# Altium footprint library Standard_SMD.PcbLib: 65 footprints (part 4 of 5)
Each footprint in its own frame and in the unit in brackets; x right, y up, seen from the top. Pads: shape width x height; smd on the part's side, far side on the other; paste and mask are expansions set on the pad; w line width, h text height; cw(c..) or ccw(c..) is an arc to the next point about the centre after c.
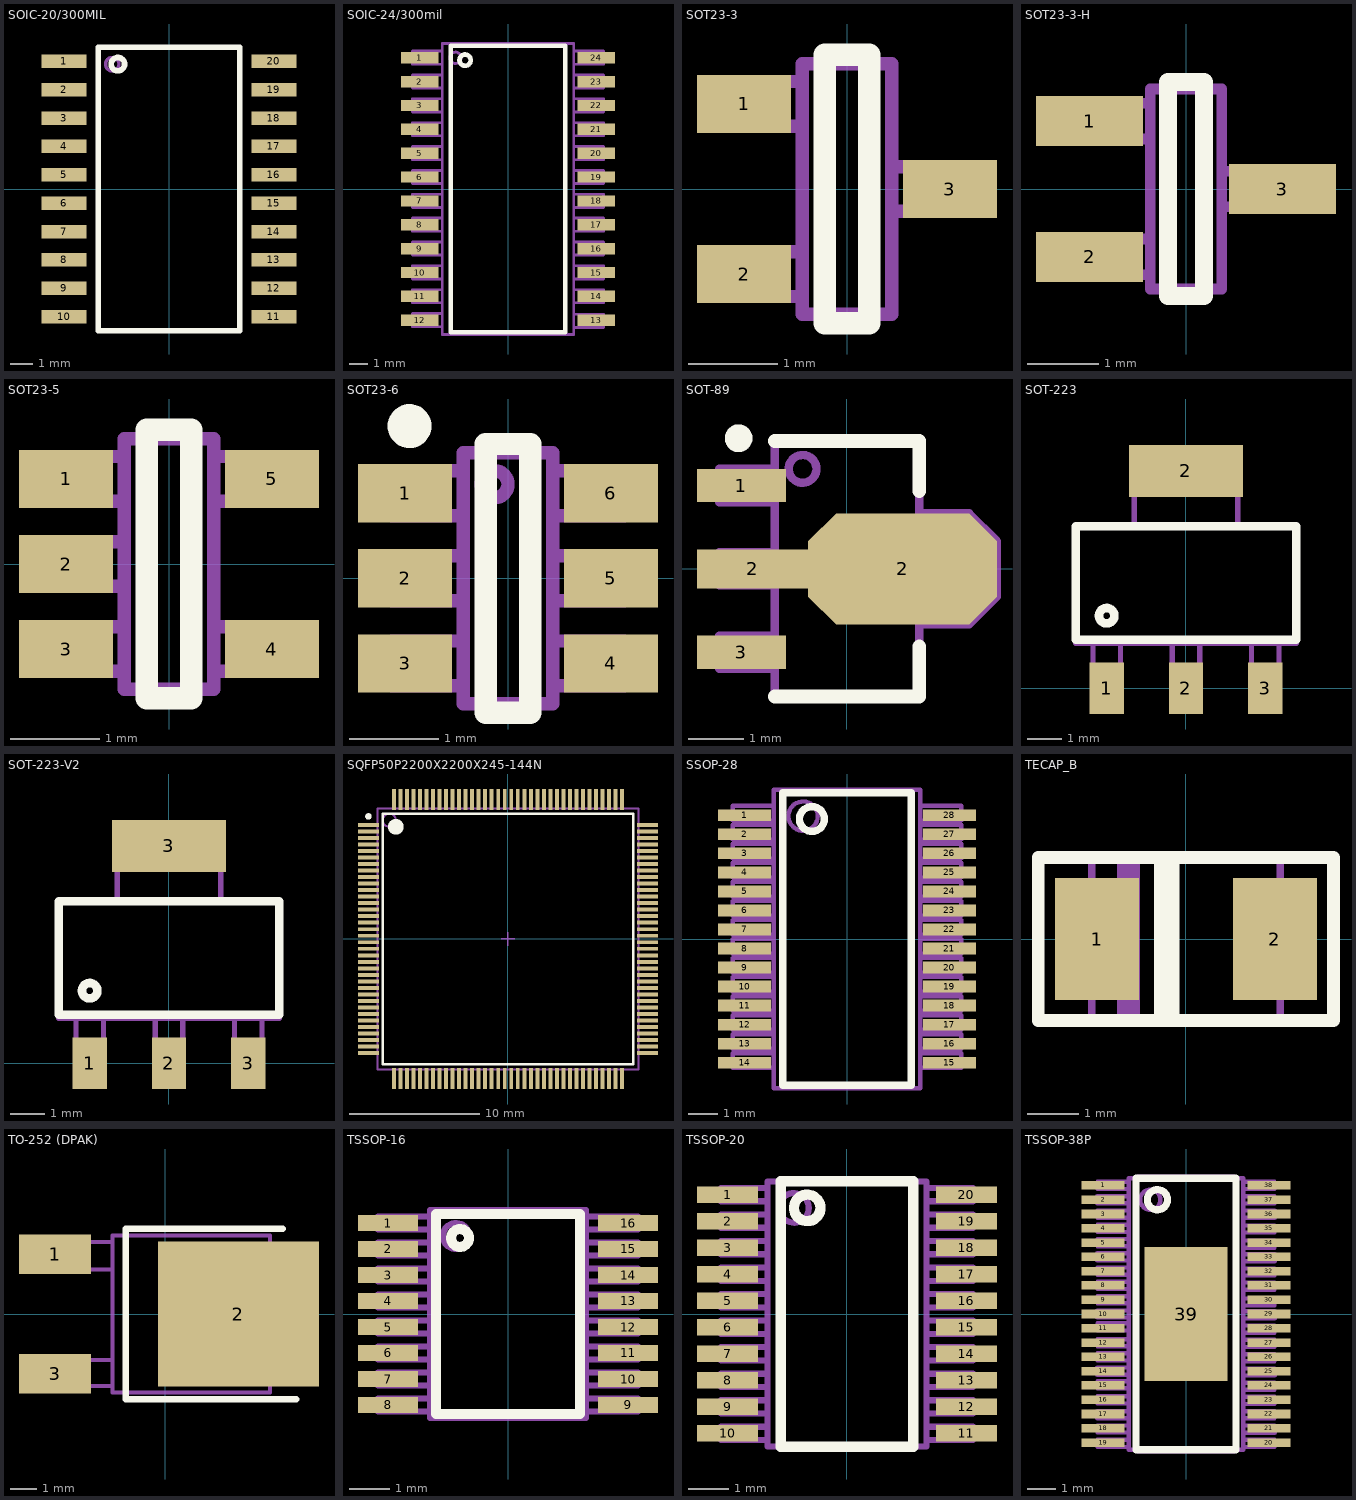
[diagram p3: the footprints below, top view; thin cyan lines are the x and y axes]

## SOIC-20/300MIL [mm]
pads (20):
  rect 2x0.6 smd: 1(-4.7,5.715) 2(-4.7,4.445) 3(-4.7,3.175) 4(-4.7,1.905) 5(-4.7,0.635) 6(-4.7,-0.635) 7(-4.7,-1.905) 8(-4.7,-3.175) 9(-4.7,-4.445) 10(-4.7,-5.715) 11(4.7,-5.715) 12(4.7,-4.445) 13(4.7,-3.175) 14(4.7,-1.905) 15(4.7,-0.635) 16(4.7,0.635) 17(4.7,1.905) 18(4.7,3.175) 19(4.7,4.445) 20(4.7,5.715)
Top Overlay:
  circle w0.25: c-2.286,5.588 r0.3
  lines w0.25: -3.175,-6.35 3.175,-6.35 3.175,6.35 -3.175,6.35 -3.175,-6.35
Top Assembly:
  circle w0.15: c-2.54,5.588 r0.3
  lines w0.15: -3.175,-6.35 3.175,-6.35 3.175,6.35 -3.175,6.35 -3.175,-6.35
3D body "SOIC20 wide.stp": height 2, standoff 0, extent -5.082,-6.5 5.082,6.5

## SOIC-24/300mil [mm]
pads (24):
  rect 2x0.6 smd: 1(-4.7,6.985) 2(-4.7,5.715) 3(-4.7,4.445) 4(-4.7,3.175) 5(-4.7,1.905) 6(-4.7,0.635) 7(-4.7,-0.635) 8(-4.7,-1.905) 9(-4.7,-3.175) 10(-4.7,-4.445) 11(-4.7,-5.715) 12(-4.7,-6.985) 13(4.7,-6.985) 14(4.7,-5.715) 15(4.7,-4.445) 16(4.7,-3.175) 17(4.7,-1.905) 18(4.7,-0.635) 19(4.7,0.635) 20(4.7,1.905) 21(4.7,3.175) 22(4.7,4.445) 23(4.7,5.715) 24(4.7,6.985)
Top Overlay:
  circle w0.25: c-2.286,6.858 r0.3
  lines w0.25: -3.048,-7.62 3.048,-7.62 3.048,7.62 -3.048,7.62 -3.048,-7.62
Top Assembly:
  circle w0.15: c-2.794,6.985 r0.3
  lines w0.15: -5.08,-7.33 -3.5,-7.33 -3.5,-6.63 -5.08,-6.63 -5.08,-7.33 ; -5.08,-6.06 -3.5,-6.06 -3.5,-5.36 -5.08,-5.36 -5.08,-6.06 ; -5.08,-4.79 -3.5,-4.79 -3.5,-4.09 -5.08,-4.09 -5.08,-4.79 ; -5.08,-3.52 -3.5,-3.52 -3.5,-2.82 -5.08,-2.82 -5.08,-3.52 ; -5.08,-2.25 -3.5,-2.25 -3.5,-1.55 -5.08,-1.55 -5.08,-2.25 ; -5.08,-0.98 -3.5,-0.98 -3.5,-0.28 -5.08,-0.28 -5.08,-0.98 ; -5.08,0.29 -3.5,0.29 -3.5,0.99 -5.08,0.99 -5.08,0.29 ; -5.08,1.56 -3.5,1.56 -3.5,2.26 -5.08,2.26 -5.08,1.56 ; -5.08,2.83 -3.5,2.83 -3.5,3.53 -5.08,3.53 -5.08,2.83 ; -5.08,4.1 -3.5,4.1 -3.5,4.8 -5.08,4.8 -5.08,4.1 ; -5.08,5.37 -3.5,5.37 -3.5,6.07 -5.08,6.07 -5.08,5.37 ; -5.08,6.64 -3.5,6.64 -3.5,7.34 -5.08,7.34 -5.08,6.64 ; -3.5,-7.747 3.5,-7.747 3.5,7.747 -3.5,7.747 -3.5,-7.747 ; 3.5,-7.366 5.08,-7.366 5.08,-6.666 3.5,-6.666 3.5,-7.366 ; 3.5,-6.06 5.08,-6.06 5.08,-5.36 3.5,-5.36 3.5,-6.06 ; 3.5,-4.79 5.08,-4.79 5.08,-4.09 3.5,-4.09 3.5,-4.79 ; 3.5,-3.52 5.08,-3.52 5.08,-2.82 3.5,-2.82 3.5,-3.52 ; 3.5,-2.25 5.08,-2.25 5.08,-1.55 3.5,-1.55 3.5,-2.25 ; 3.5,-0.98 5.08,-0.98 5.08,-0.28 3.5,-0.28 3.5,-0.98 ; 3.5,0.29 5.08,0.29 5.08,0.99 3.5,0.99 3.5,0.29 ; 3.5,1.56 5.08,1.56 5.08,2.26 3.5,2.26 3.5,1.56 ; 3.5,2.83 5.08,2.83 5.08,3.53 3.5,3.53 3.5,2.83 ; 3.5,4.1 5.08,4.1 5.08,4.8 3.5,4.8 3.5,4.1 ; 3.5,5.37 5.08,5.37 5.08,6.07 3.5,6.07 3.5,5.37 ; 3.5,6.64 5.08,6.64 5.08,7.34 3.5,7.34 3.5,6.64
3D body "soic-24_300mil.step": height 1.58, standoff 0.03, extent -5,-7.8 5,7.8

## SOT23-3 [mm]
pads (3):
  rect 1.05x0.65 smd: 1(-1.15,0.95) 2(-1.15,-0.95) 3(1.15,0)
Top Overlay:
  lines w0.25: -0.25,-1.5 0.25,-1.5 0.25,1.5 -0.25,1.5 -0.25,-1.5
Top Assembly:
  lines w0.15: -1.3,-1.2 -0.5,-1.2 -0.5,-0.7 -1.3,-0.7 -1.3,-1.2 ; -1.3,0.7 -0.5,0.7 -0.5,1.2 -1.3,1.2 -1.3,0.7 ; -0.5,-1.4 0.5,-1.4 0.5,1.4 -0.5,1.4 -0.5,-1.4 ; 0.5,-0.25 1.3,-0.25 1.3,0.25 0.5,0.25 0.5,-0.25
3D body "sot23.step": height 1, standoff 0, extent -1.2,-1.5 1.2,1.5

## SOT23-3-H [mm]
pads (3):
  rect 1.5x0.7 smd: 1(-1.35,0.95) 2(-1.35,-0.95) 3(1.35,0)
Top Overlay:
  lines w0.25: -0.25,-1.5 0.25,-1.5 0.25,1.5 -0.25,1.5 -0.25,-1.5
Top Assembly:
  lines w0.15: -1.3,-1.2 -0.5,-1.2 -0.5,-0.7 -1.3,-0.7 -1.3,-1.2 ; -1.3,0.7 -0.5,0.7 -0.5,1.2 -1.3,1.2 -1.3,0.7 ; -0.5,-1.4 0.5,-1.4 0.5,1.4 -0.5,1.4 -0.5,-1.4 ; 0.5,-0.25 1.3,-0.25 1.3,0.25 0.5,0.25 0.5,-0.25
3D body "sot23.step": height 1, standoff 0, extent -1.2,-1.5 1.2,1.5

## SOT23-5 [mm]
pads (5):
  rect 1.05x0.65 smd: 1(-1.15,0.95) 2(-1.15,0) 3(-1.15,-0.95) 4(1.15,-0.95) 5(1.15,0.95)
Top Overlay:
  lines w0.25: -0.25,-1.5 0.25,-1.5 0.25,1.5 -0.25,1.5 -0.25,-1.5
Top Assembly:
  lines w0.15: -1.3,-1.2 -0.5,-1.2 -0.5,-0.7 -1.3,-0.7 -1.3,-1.2 ; -1.3,-0.25 -0.5,-0.25 -0.5,0.25 -1.3,0.25 -1.3,-0.25 ; -1.3,0.7 -0.5,0.7 -0.5,1.2 -1.3,1.2 -1.3,0.7 ; -0.5,-1.4 0.5,-1.4 0.5,1.4 -0.5,1.4 -0.5,-1.4 ; 0.5,-1.2 1.3,-1.2 1.3,-0.7 0.5,-0.7 0.5,-1.2 ; 0.5,0.7 1.3,0.7 1.3,1.2 0.5,1.2 0.5,0.7
3D body "sot23-5.step": height 1, standoff 0, extent -1.4,-1.5 1.4,1.5

## SOT23-6 [mm]
pads (6):
  rect 1.05x0.65 smd: 1(-1.15,0.95) 2(-1.15,0) 3(-1.15,-0.95) 4(1.15,-0.95) 5(1.15,0) 6(1.15,0.95)
Top Overlay:
  circle w0.25: c-1.1,1.7 r0.12
  lines w0.25: -0.25,-1.5 0.25,-1.5 0.25,1.5 -0.25,1.5 -0.25,-1.5
Top Assembly:
  circle w0.15: c-0.15,1.05 r0.15
  lines w0.15: -1.3,-1.2 -0.5,-1.2 -0.5,-0.7 -1.3,-0.7 -1.3,-1.2 ; -1.3,-0.25 -0.5,-0.25 -0.5,0.25 -1.3,0.25 -1.3,-0.25 ; -1.3,0.7 -0.5,0.7 -0.5,1.2 -1.3,1.2 -1.3,0.7 ; -0.5,-1.4 0.5,-1.4 0.5,1.4 -0.5,1.4 -0.5,-1.4 ; 0.5,-1.2 1.3,-1.2 1.3,-0.7 0.5,-0.7 0.5,-1.2 ; 0.5,-0.25 1.3,-0.25 1.3,0.25 0.5,0.25 0.5,-0.25 ; 0.5,0.7 1.3,0.7 1.3,1.2 0.5,1.2 0.5,0.7
3D body "sot23-6.step": height 1.01, standoff 0.01, extent -1.4,-1.5 1.4,1.5

## SOT-89 [mm]
pads (4):
  rect 1.6x0.6 smd: 1(-1.9,1.5) 3(-1.9,-1.5)
  rect 2x0.7 smd: 2(-1.7,0)
  oct 3.4x2 smd: 2(1,0)
Top Overlay:
  circle w0.25: c-1.95,2.35 r0.125
  lines w0.25: -1.3,-2.3 1.3,-2.3 1.3,-1.4 ; -1.3,2.3 1.3,2.3 1.3,1.4
Top Assembly:
  circle w0.15: c-0.8,1.8 r0.25
  lines w0.15: 1.3,-1 2.2,-1 2.7,-0.5 2.7,0.5 2.2,1 1.3,1 ; -2.3,-1.8 -1.3,-1.8 -1.3,-1.2 -2.3,-1.2 -2.3,-1.8 ; -2.3,-0.3 -1.3,-0.3 -1.3,0.3 -2.3,0.3 -2.3,-0.3 ; -2.3,1.2 -1.3,1.2 -1.3,1.8 -2.3,1.8 -2.3,1.2 ; -1.3,-2.3 1.3,-2.3 1.3,2.3 -1.3,2.3 -1.3,-2.3
3D body "sot89r.step": height 1.55, standoff 0.05, extent -2,-2.3 1.9,2.3

## SOT-223 [mm]
pads (4):
  rect 1x1.5 smd: 1(-2.3,0) 2(0,0) 3(2.3,0)
  rect 3.3x1.5 smd: 2(0,6.3)
Top Overlay:
  circle w0.25: c-2.3,2.1 r0.224
  lines w0.25: -3.2,1.4 3.2,1.4 3.2,4.7 -3.2,4.7 -3.2,1.4
Top Assembly:
  lines w0.15: -1.5,5.85 1.5,5.85 ; -1.5,4.7 1.5,4.7 ; -1.5,4.7 -1.5,6.6 1.5,6.6 1.5,4.7 ; -1.5,4.7 -3.2,4.7 -3.2,1.3 3.2,1.3 3.2,4.7 1.5,4.7 ; -2.7,-0.5 -1.9,-0.5 -1.9,1.3 -2.7,1.3 -2.7,-0.5 ; -0.4,-0.5 0.4,-0.5 0.4,1.3 -0.4,1.3 -0.4,-0.5 ; 1.9,-0.5 2.7,-0.5 2.7,1.3 1.9,1.3 1.9,-0.5
3D body "SOT-223.STEP": height 1.7, standoff 0.02, extent -3.25,-0.45 3.25,6.51

## SOT-223-V2 [mm]
pads (4):
  rect 1x1.5 smd: 1(-2.3,0) 2(0,0) 3(2.3,0)
  rect 3.3x1.5 smd: 3(0,6.3)
Top Overlay:
  circle w0.25: c-2.3,2.1 r0.224
  lines w0.25: -3.2,1.4 3.2,1.4 3.2,4.7 -3.2,4.7 -3.2,1.4
Top Assembly:
  lines w0.15: -1.5,5.85 1.5,5.85 ; -1.5,4.7 1.5,4.7 ; -1.5,4.7 -1.5,6.6 1.5,6.6 1.5,4.7 ; -1.5,4.7 -3.2,4.7 -3.2,1.3 3.2,1.3 3.2,4.7 1.5,4.7 ; -2.7,-0.5 -1.9,-0.5 -1.9,1.3 -2.7,1.3 -2.7,-0.5 ; -0.4,-0.5 0.4,-0.5 0.4,1.3 -0.4,1.3 -0.4,-0.5 ; 1.9,-0.5 2.7,-0.5 2.7,1.3 1.9,1.3 1.9,-0.5
3D body "SOT-223.STEP": height 1.7, standoff 0.02, extent -3.25,-0.45 3.25,6.51

## SQFP50P2200X2200X245-144N [mm] "SQFP, 144-Leads, Body 20,00x20,00mm, Pitch 0,50mm, IPC Medium Density"
height 2.45
pads (144):
  rect 1.6x0.3 smd: 1(-10.7,8.75) 2(-10.7,8.25) 3(-10.7,7.75) 4(-10.7,7.25) 5(-10.7,6.75) 6(-10.7,6.25) 7(-10.7,5.75) 8(-10.7,5.25) 9(-10.7,4.75) 10(-10.7,4.25) 11(-10.7,3.75) 12(-10.7,3.25) 13(-10.7,2.75) 14(-10.7,2.25) 15(-10.7,1.75) 16(-10.7,1.25) 17(-10.7,0.75) 18(-10.7,0.25) 19(-10.7,-0.25) 20(-10.7,-0.75) 21(-10.7,-1.25) 22(-10.7,-1.75) 23(-10.7,-2.25) 24(-10.7,-2.75) 25(-10.7,-3.25) 26(-10.7,-3.75) 27(-10.7,-4.25) 28(-10.7,-4.75) 29(-10.7,-5.25) 30(-10.7,-5.75) 31(-10.7,-6.25) 32(-10.7,-6.75) 33(-10.7,-7.25) 34(-10.7,-7.75) 35(-10.7,-8.25) 36(-10.7,-8.75) 73(10.7,-8.75) 74(10.7,-8.25) 75(10.7,-7.75) 76(10.7,-7.25) 77(10.7,-6.75) 78(10.7,-6.25) 79(10.7,-5.75) 80(10.7,-5.25) 81(10.7,-4.75) 82(10.7,-4.25) 83(10.7,-3.75) 84(10.7,-3.25) 85(10.7,-2.75) 86(10.7,-2.25) 87(10.7,-1.75) 88(10.7,-1.25) 89(10.7,-0.75) 90(10.7,-0.25) 91(10.7,0.25) 92(10.7,0.75) 93(10.7,1.25) 94(10.7,1.75) 95(10.7,2.25) 96(10.7,2.75) 97(10.7,3.25) 98(10.7,3.75) 99(10.7,4.25) 100(10.7,4.75) 101(10.7,5.25) 102(10.7,5.75) 103(10.7,6.25) 104(10.7,6.75) 105(10.7,7.25) 106(10.7,7.75) 107(10.7,8.25) 108(10.7,8.75)
  rect 0.3x1.6 smd: 37(-8.75,-10.7) 38(-8.25,-10.7) 39(-7.75,-10.7) 40(-7.25,-10.7) 41(-6.75,-10.7) 42(-6.25,-10.7) 43(-5.75,-10.7) 44(-5.25,-10.7) 45(-4.75,-10.7) 46(-4.25,-10.7) 47(-3.75,-10.7) 48(-3.25,-10.7) 49(-2.75,-10.7) 50(-2.25,-10.7) 51(-1.75,-10.7) 52(-1.25,-10.7) 53(-0.75,-10.7) 54(-0.25,-10.7) 55(0.25,-10.7) 56(0.75,-10.7) 57(1.25,-10.7) 58(1.75,-10.7) 59(2.25,-10.7) 60(2.75,-10.7) 61(3.25,-10.7) 62(3.75,-10.7) 63(4.25,-10.7) 64(4.75,-10.7) 65(5.25,-10.7) 66(5.75,-10.7) 67(6.25,-10.7) 68(6.75,-10.7) 69(7.25,-10.7) 70(7.75,-10.7) 71(8.25,-10.7) 72(8.75,-10.7) 109(8.75,10.7) 110(8.25,10.7) 111(7.75,10.7) 112(7.25,10.7) 113(6.75,10.7) 114(6.25,10.7) 115(5.75,10.7) 116(5.25,10.7) 117(4.75,10.7) 118(4.25,10.7) 119(3.75,10.7) 120(3.25,10.7) 121(2.75,10.7) 122(2.25,10.7) 123(1.75,10.7) 124(1.25,10.7) 125(0.75,10.7) 126(0.25,10.7) 127(-0.25,10.7) 128(-0.75,10.7) 129(-1.25,10.7) 130(-1.75,10.7) 131(-2.25,10.7) 132(-2.75,10.7) 133(-3.25,10.7) 134(-3.75,10.7) 135(-4.25,10.7) 136(-4.75,10.7) 137(-5.25,10.7) 138(-5.75,10.7) 139(-6.25,10.7) 140(-6.75,10.7) 141(-7.25,10.7) 142(-7.75,10.7) 143(-8.25,10.7) 144(-8.75,10.7)
Top Overlay:
  circle w0.25: c-10.7,9.4 r0.125
  circle w0.6: c-8.6,8.6 r0.3
  lines w0.2: -9.6,-9.6 -9.6,9.6 9.6,9.6 9.6,-9.6 -9.6,-9.6
Top Assembly:
  circle w0.15: c-9.1,9.1 r0.5
  lines w0.15: -10,-10 -10,10 10,10 10,-10 -10,-10
Mechanical 15:
  lines w0.1: -0.5,0 0.5,0 ; 0,-0.5 0,0.5
3D body "qfp-144_22x22x0.5.step": height 1.5, standoff 0.02, extent -11,-11 11,11

## SSOP-28 [mm]
pads (28):
  rect 1.8x0.4 smd: 1(-3.5,4.225) 2(-3.5,3.575) 3(-3.5,2.925) 4(-3.5,2.275) 5(-3.5,1.625) 6(-3.5,0.975) 7(-3.5,0.325) 8(-3.5,-0.325) 9(-3.5,-0.975) 10(-3.5,-1.625) 11(-3.5,-2.275) 12(-3.5,-2.925) 13(-3.5,-3.575) 14(-3.5,-4.225) 15(3.5,-4.225) 16(3.5,-3.575) 17(3.5,-2.925) 18(3.5,-2.275) 19(3.5,-1.625) 20(3.5,-0.975) 21(3.5,-0.325) 22(3.5,0.325) 23(3.5,0.975) 24(3.5,1.625) 25(3.5,2.275) 26(3.5,2.925) 27(3.5,3.575) 28(3.5,4.225)
Top Overlay:
  circle w0.25: c-1.2,4.1 r0.424
  lines w0.25: -2.2,-5 2.2,-5 2.2,5 -2.2,5 -2.2,-5
Top Assembly:
  circle w0.15: c-1.5,4.2 r0.5
  lines w0.15: -3.9,-4.4 -2.5,-4.4 -2.5,-3.9 -3.9,-3.9 -3.9,-4.4 ; -3.9,-3.75 -2.5,-3.75 -2.5,-3.25 -3.9,-3.25 -3.9,-3.75 ; -3.9,-3.1 -2.5,-3.1 -2.5,-2.6 -3.9,-2.6 -3.9,-3.1 ; -3.9,-2.45 -2.5,-2.45 -2.5,-1.95 -3.9,-1.95 -3.9,-2.45 ; -3.9,-1.8 -2.5,-1.8 -2.5,-1.3 -3.9,-1.3 -3.9,-1.8 ; -3.9,-1.15 -2.5,-1.15 -2.5,-0.65 -3.9,-0.65 -3.9,-1.15 ; -3.9,-0.5 -2.5,-0.5 -2.5,0 -3.9,0 -3.9,-0.5 ; -3.9,0.15 -2.5,0.15 -2.5,0.65 -3.9,0.65 -3.9,0.15 ; -3.9,0.8 -2.5,0.8 -2.5,1.3 -3.9,1.3 -3.9,0.8 ; -3.9,1.45 -2.5,1.45 -2.5,1.95 -3.9,1.95 -3.9,1.45 ; -3.9,2.1 -2.5,2.1 -2.5,2.6 -3.9,2.6 -3.9,2.1 ; -3.9,2.75 -2.5,2.75 -2.5,3.25 -3.9,3.25 -3.9,2.75 ; -3.9,3.4 -2.5,3.4 -2.5,3.9 -3.9,3.9 -3.9,3.4 ; -3.9,4.05 -2.5,4.05 -2.5,4.55 -3.9,4.55 -3.9,4.05 ; -2.5,-5.1 2.5,-5.1 2.5,5.1 -2.5,5.1 -2.5,-5.1 ; 2.5,0.15 3.9,0.15 3.9,0.65 2.5,0.65 2.5,0.15 ; 2.5,0.8 3.9,0.8 3.9,1.3 2.5,1.3 2.5,0.8 ; 2.5,1.45 3.9,1.45 3.9,1.95 2.5,1.95 2.5,1.45 ; 2.5,2.1 3.9,2.1 3.9,2.6 2.5,2.6 2.5,2.1 ; 2.5,2.75 3.9,2.75 3.9,3.25 2.5,3.25 2.5,2.75 ; 2.5,3.4 3.9,3.4 3.9,3.9 2.5,3.9 2.5,3.4 ; 2.5,4.05 3.9,4.05 3.9,4.55 2.5,4.55 2.5,4.05 ; 2.5,-4.4 3.9,-4.4 3.9,-3.9 2.5,-3.9 2.5,-4.4 ; 2.5,-3.75 3.9,-3.75 3.9,-3.25 2.5,-3.25 2.5,-3.75 ; 2.5,-3.1 3.9,-3.1 3.9,-2.6 2.5,-2.6 2.5,-3.1 ; 2.5,-2.45 3.9,-2.45 3.9,-1.95 2.5,-1.95 2.5,-2.45 ; 2.5,-1.8 3.9,-1.8 3.9,-1.3 2.5,-1.3 2.5,-1.8 ; 2.5,-1.15 3.9,-1.15 3.9,-0.65 2.5,-0.65 2.5,-1.15 ; 2.5,-0.5 3.9,-0.5 3.9,0 2.5,0 2.5,-0.5
3D body "SSOP-28-1.STEP": height 2.15, standoff 0, extent -3.878,-5.165 3.878,5.165

## TECAP_B [mm]
pads (2):
  rect 1.65x2.4 smd: 1(-1.746,0) 2(1.747,0)
Top Overlay:
  rectangle: -0.625,-1.6 -0.125,1.6
  lines w0.25: -2.9,-1.6 2.9,-1.6 2.9,1.6 -2.9,1.6 -2.9,-1.6
Top Assembly:
  rectangle: -1.35,-1.625 -0.9,1.625
  lines w0.15: -2.25,-1 -1.85,-1 -1.85,1 -2.25,1 -2.25,-1 ; -1.85,-1.6 1.85,-1.6 1.85,1.6 -1.85,1.6 -1.85,-1.6 ; 1.85,-1 2.25,-1 2.25,1 1.85,1 1.85,-1
3D body "TECAP_B.stp": height 2.11, standoff 0.01, extent -1.85,-1.475 1.85,1.525

## TO-252 (DPAK) [mm]
pads (3):
  rect 2.75x1.5 smd: 1(-4.2,2.28) 3(-4.2,-2.28)
  rect 6.15x5.55 smd: 2(2.8,0)
Top Overlay:
  lines w0.25: 4.5,3.25 -1.5,3.25 -1.5,-3.25 5,-3.25
Top Assembly:
  lines w0.15: -4.5,-2.75 -2,-2.75 -2,-1.75 -4.5,-1.75 -4.5,-2.75 ; -4.5,1.7 -2,1.7 -2,2.75 -4.5,2.75 -4.5,1.7 ; -2,-3 4,-3 4,3 -2,3 -2,-3 ; 4,-2.625 5,-2.625 5,2.625 4,2.625 4,-2.625
3D body "to252-3(4)_9.6x6.6x2.3.step": height 2.34, standoff 0.04, extent -4.7,-3.1 5.1,3.1

## TSSOP-16 [mm]
pads (16):
  rect 1.5x0.4 smd: 1(-3,2.275) 2(-3,1.625) 3(-3,0.975) 4(-3,0.325) 5(-3,-0.325) 6(-3,-0.975) 7(-3,-1.625) 8(-3,-2.275) 9(3,-2.275) 10(3,-1.625) 11(3,-0.975) 12(3,-0.325) 13(3,0.325) 14(3,0.975) 15(3,1.625) 16(3,2.275)
Top Overlay:
  circle w0.25: c-1.2,1.9 r0.224
  lines w0.25: -1.8,-2.5 1.8,-2.5 1.8,2.5 -1.8,2.5 -1.8,-2.5
Top Assembly:
  circle w0.15: c-1.3,1.95 r0.325
  lines w0.15: -3.25,-2.438 -1.95,-2.438 -1.95,-2.112 -3.25,-2.112 -3.25,-2.438 ; -3.25,-1.788 -1.95,-1.788 -1.95,-1.462 -3.25,-1.462 -3.25,-1.788 ; -3.25,-1.138 -1.95,-1.138 -1.95,-0.812 -3.25,-0.812 -3.25,-1.138 ; -3.25,-0.488 -1.95,-0.488 -1.95,-0.162 -3.25,-0.162 -3.25,-0.488 ; -3.25,0.162 -1.95,0.162 -1.95,0.488 -3.25,0.488 -3.25,0.162 ; -3.25,0.812 -1.95,0.812 -1.95,1.138 -3.25,1.138 -3.25,0.812 ; -3.25,1.462 -1.95,1.462 -1.95,1.788 -3.25,1.788 -3.25,1.462 ; -3.25,2.113 -1.95,2.113 -1.95,2.438 -3.25,2.438 -3.25,2.113 ; -1.95,-2.6 1.95,-2.6 1.95,2.6 -1.95,2.6 -1.95,-2.6 ; 1.95,-2.437 3.25,-2.437 3.25,-2.112 1.95,-2.112 1.95,-2.437 ; 1.95,-1.787 3.25,-1.787 3.25,-1.462 1.95,-1.462 1.95,-1.787 ; 1.95,-1.137 3.25,-1.137 3.25,-0.812 1.95,-0.812 1.95,-1.137 ; 1.95,-0.487 3.25,-0.487 3.25,-0.162 1.95,-0.162 1.95,-0.487 ; 1.95,0.163 3.25,0.163 3.25,0.488 1.95,0.488 1.95,0.163 ; 1.95,0.813 3.25,0.813 3.25,1.138 1.95,1.138 1.95,0.813 ; 1.95,1.462 3.25,1.462 3.25,1.788 1.95,1.788 1.95,1.462 ; 1.95,2.113 3.25,2.113 3.25,2.438 1.95,2.438 1.95,2.113
3D body "TSSOP-16 5_1x4_4.STEP": height 1.1, standoff 0, extent -3.2,-2.55 3.2,2.55

## TSSOP-20 [mm]
pads (20):
  rect 1.5x0.4 smd: 1(-2.925,2.925) 2(-2.925,2.275) 3(-2.925,1.625) 4(-2.925,0.975) 5(-2.925,0.325) 6(-2.925,-0.325) 7(-2.925,-0.975) 8(-2.925,-1.625) 9(-2.925,-2.275) 10(-2.925,-2.925) 11(2.925,-2.925) 12(2.925,-2.275) 13(2.925,-1.625) 14(2.925,-0.975) 15(2.925,-0.325) 16(2.925,0.325) 17(2.925,0.975) 18(2.925,1.625) 19(2.925,2.275) 20(2.925,2.925)
Top Overlay:
  circle w0.25: c-0.975,2.6 r0.325
  lines w0.25: -1.625,-3.25 1.625,-3.25 1.625,3.25 -1.625,3.25 -1.625,-3.25
Top Assembly:
  circle w0.15: c-1.3,2.6 r0.363
  lines w0.15: -3.087,-3.088 -1.95,-3.088 -1.95,-2.762 -3.087,-2.762 -3.087,-3.088 ; -3.087,-2.438 -1.95,-2.438 -1.95,-2.112 -3.087,-2.112 -3.087,-2.438 ; -3.087,-1.788 -1.95,-1.788 -1.95,-1.462 -3.087,-1.462 -3.087,-1.788 ; -3.087,-1.138 -1.95,-1.138 -1.95,-0.812 -3.087,-0.812 -3.087,-1.138 ; -3.087,-0.488 -1.95,-0.488 -1.95,-0.162 -3.087,-0.162 -3.087,-0.488 ; -3.087,0.162 -1.95,0.162 -1.95,0.488 -3.087,0.488 -3.087,0.162 ; -3.087,0.812 -1.95,0.812 -1.95,1.138 -3.087,1.138 -3.087,0.812 ; -3.087,1.462 -1.95,1.462 -1.95,1.788 -3.087,1.788 -3.087,1.462 ; -3.087,2.112 -1.95,2.112 -1.95,2.438 -3.087,2.438 -3.087,2.112 ; -3.087,2.762 -1.95,2.762 -1.95,3.088 -3.087,3.088 -3.087,2.762 ; -1.95,-3.25 1.95,-3.25 1.95,3.25 -1.95,3.25 -1.95,-3.25 ; 1.95,-3.088 3.088,-3.088 3.088,-2.762 1.95,-2.762 1.95,-3.088 ; 1.95,-2.438 3.088,-2.438 3.088,-2.112 1.95,-2.112 1.95,-2.438 ; 1.95,-1.788 3.088,-1.788 3.088,-1.462 1.95,-1.462 1.95,-1.788 ; 1.95,-1.138 3.088,-1.138 3.088,-0.812 1.95,-0.812 1.95,-1.138 ; 1.95,-0.488 3.088,-0.488 3.088,-0.162 1.95,-0.162 1.95,-0.488 ; 1.95,0.162 3.088,0.162 3.088,0.488 1.95,0.488 1.95,0.162 ; 1.95,0.812 3.088,0.812 3.088,1.138 1.95,1.138 1.95,0.812 ; 1.95,1.462 3.088,1.462 3.088,1.788 1.95,1.788 1.95,1.462 ; 1.95,2.112 3.088,2.112 3.088,2.438 1.95,2.438 1.95,2.112 ; 1.95,2.763 3.088,2.763 3.088,3.088 1.95,3.088 1.95,2.763
3D body "TSSOP-20 0.65p 4.4mm.step": height 1, standoff 0, extent -3.15,-3.2 3.15,3.2

## TSSOP-38P [mm]
pads (39):
  rect 1.5x0.3 smd: 1(-2.9,4.5) 2(-2.9,4) 3(-2.9,3.5) 4(-2.9,3) 5(-2.9,2.5) 6(-2.9,2) 7(-2.9,1.5) 8(-2.9,1) 9(-2.9,0.5) 10(-2.9,0) 11(-2.9,-0.5) 12(-2.9,-1) 13(-2.9,-1.5) 14(-2.9,-2) 15(-2.9,-2.5) 16(-2.9,-3) 17(-2.9,-3.5) 18(-2.9,-4) 19(-2.9,-4.5) 20(2.9,-4.5) 21(2.9,-4) 22(2.9,-3.5) 23(2.9,-3) 24(2.9,-2.5) 25(2.9,-2) 26(2.9,-1.5) 27(2.9,-1) 28(2.9,-0.5) 29(2.9,0) 30(2.9,0.5) 31(2.9,1) 32(2.9,1.5) 33(2.9,2) 34(2.9,2.5) 35(2.9,3) 36(2.9,3.5) 37(2.9,4) 38(2.9,4.5)
  rect 2.9x4.7 smd paste+0 mask+0: 39(0,0)
Top Overlay:
  circle w0.25: c-1,4 r0.354
  lines w0.25: -1.75,-4.75 1.75,-4.75 1.75,4.75 -1.75,4.75 -1.75,-4.75
Top Assembly:
  drawing of 157 lines, arcs and shapes, not listed
Mechanical 15:
  lines w0.05: -1.7,-4.85 1.7,-4.85 1.7,4.85 -1.7,4.85 -1.7,-4.85
3D body "TSSOP-38.STEP": height 1.2, standoff 0, extent -3.2,-4.85 3.2,4.85